# Altium schematic symbol library TPS25942A.Schlib: 1 symbol
Pins are listed as number, name and electrical type; pins without a type are passive.

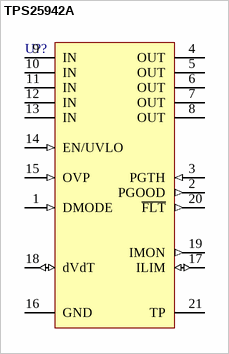
[diagram p0: symbol TPS25942A]

## TPS25942A
designator U??
pins: 1 DMODE (in), 2 PGOOD (out), 3 PGTH (in), 4 OUT, 5 OUT, 6 OUT, 7 OUT, 8 OUT, 9 IN, 10 IN, 11 IN, 12 IN, 13 IN, 14 EN/UVLO (in), 15 OVP (in), 16 GND (power), 17 ILIM (io), 18 dVdT (io), 19 IMON (out), 20 ~{FLT} (out), 21 TP (power)